# EAGLE library part SMD-HDR-7-2 (library scott_eagle)
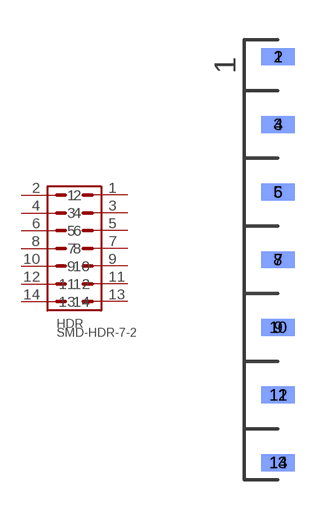
[diagram p1: symbol with the pads of SMD-HDR-7-2; footprint SMD-HDR-7-2]

Designator prefix HDR

## SMD-HDR-7-2  [SMD-HDR-7-2]
1  1
2  2
3  3
4  4
5  5
6  6
7  7
8  8
9  9
10  10
11  11
12  12
13  13
14  14

## Footprint SMD-HDR-7-2 (pad centres in mm)
smd 1.27 x 0.635: 1 1.27,6.35; 3 1.27,3.81; 5 1.27,1.27; 7 1.27,-1.27; 9 1.27,-3.81; 11 1.27,-6.35; 13 1.27,-8.89
smd 1.27 x 0.635 bottom: 2 1.27,6.35; 4 1.27,3.81; 6 1.27,1.27; 8 1.27,-1.27; 10 1.27,-3.81; 12 1.27,-6.35; 14 1.27,-8.89